# EAGLE library part PCF8537B (library nxp_60_1_1)
Industrial LCD driver for multiplex rates up to 1:8. SPI version. The PCF8537 is a fully featured Liquid Crystal Display (LCD) driver, specifically designed for high-contrast Vertical Alignment (VA) LCD with multiplex rates up to 1:8. It generates the drive signals for any static or multiplexed LCD containing up to eight backplanes, 46 segments, and up to 352 elements. The PCF8537 features an internal charge pump with internal capacitors for on-chip generation of the LCD driving voltage. To ensure an optimal and stable contrast over the full temperature range, the PCF8537 offers a programmable temperature compensation of the LCD supply voltage. The PCF8537 can be easily connected to a microcontroller by either the two-line I2C-bus (PCF8537AH) or a three-line bidirectional SPI-bus (PCF8537BH). AAL Eindhoven MK
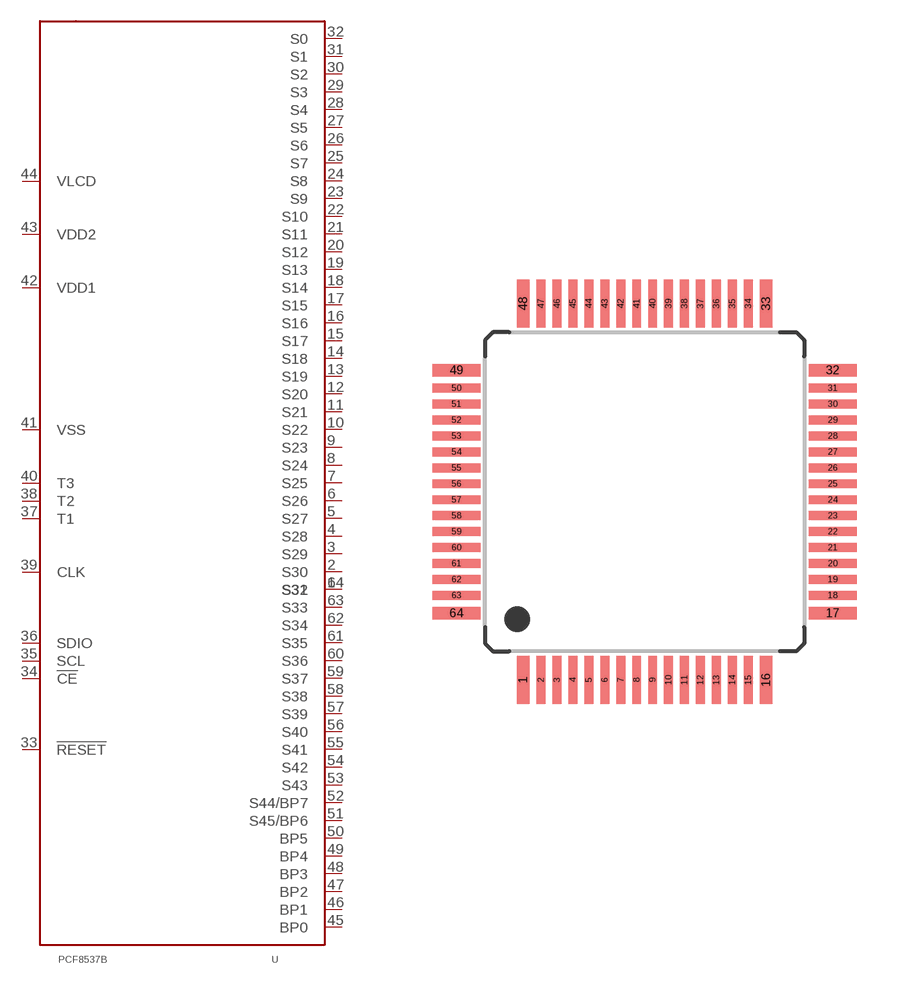
[diagram p71: symbol with the pads of SOT357-1; footprint SOT357-1]

Designator prefix U

## PCF8537B  [SOT357-1]
1  S31  out
2  S30  out
3  S29  out
4  S28  out
5  S27  out
6  S26  out
7  S25  out
8  S24  out
9  S23  out
10  S22  out
11  S21  out
12  S20  out
13  S19  out
14  S18  out
15  S17  out
16  S16  out
17  S15  out
18  S14  out
19  S13  out
20  S12  out
21  S11  out
22  S10  out
23  S9  out
24  S8  out
25  S7  out
26  S6  out
27  S5  out
28  S4  out
29  S3  out
30  S2  out
31  S1  out
32  S0  out
33  !RESET!  out
34  !CE!  out
35  SCL  out
36  SDIO  out
37  T1  out
38  T2  out
39  CLK  out
40  T3  out
41  VSS  out
42  VDD1  out
43  VDD2  out
44  VLCD  out
45  BP0  out
46  BP1  out
47  BP2  out
48  BP3  out
49  BP4  out
50  BP5  out
51  S45/BP6  out
52  S44/BP7  out
53  S43  out
54  S42  out
55  S41  out
56  S40  out
57  S39  out
58  S38  out
59  S37  out
60  S36  out
61  S35  out
62  S34  out
63  S33  out
64  S32  out

## Footprint SOT357-1 (pad centres in mm)
SOT357-1 TQFP64: plastic thin quad flat package; 64 leads; body 10 x 10 x 1.0 mm JEDEC: MS-026 IEC: 137E10 JEITA: --
smd 0.4 x 1.5: 1 -3.81,-5.9; 16 3.81,-5.9; 33 3.81,5.9; 48 -3.81,5.9
smd 0.28 x 1.5: 2 -3.25,-5.9; 3 -2.75,-5.9; 4 -2.25,-5.9; 5 -1.75,-5.9; 6 -1.25,-5.9; 7 -0.75,-5.9; 8 -0.25,-5.9; 9 0.25,-5.9; 10 0.75,-5.9; 11 1.25,-5.9; 12 1.75,-5.9; 13 2.25,-5.9; 14 2.75,-5.9; 15 3.25,-5.9; 34 3.25,5.9; 35 2.75,5.9; 36 2.25,5.9; 37 1.75,5.9; 38 1.25,5.9; 39 0.75,5.9; 40 0.25,5.9; 41 -0.25,5.9; 42 -0.75,5.9; 43 -1.25,5.9; 44 -1.75,5.9; 45 -2.25,5.9; 46 -2.75,5.9; 47 -3.25,5.9
smd 1.5 x 0.4: 17 5.9,-3.81; 32 5.9,3.81; 49 -5.9,3.81; 64 -5.9,-3.81
smd 1.5 x 0.28: 18 5.9,-3.25; 19 5.9,-2.75; 20 5.9,-2.25; 21 5.9,-1.75; 22 5.9,-1.25; 23 5.9,-0.75; 24 5.9,-0.25; 25 5.9,0.25; 26 5.9,0.75; 27 5.9,1.25; 28 5.9,1.75; 29 5.9,2.25; 30 5.9,2.75; 31 5.9,3.25; 50 -5.9,3.25; 51 -5.9,2.75; 52 -5.9,2.25; 53 -5.9,1.75; 54 -5.9,1.25; 55 -5.9,0.75; 56 -5.9,0.25; 57 -5.9,-0.25; 58 -5.9,-0.75; 59 -5.9,-1.25; 60 -5.9,-1.75; 61 -5.9,-2.25; 62 -5.9,-2.75; 63 -5.9,-3.25